# Altium footprint library LibTim_Misc.PcbLib: 21 footprints (part 2 of 2)
Each footprint in its own frame and in the unit in brackets; x right, y up, seen from the top. Pads: shape width x height; smd on the part's side, far side on the other; paste and mask are expansions set on the pad; w line width, h text height; cw(c..) or ccw(c..) is an arc to the next point about the centre after c.
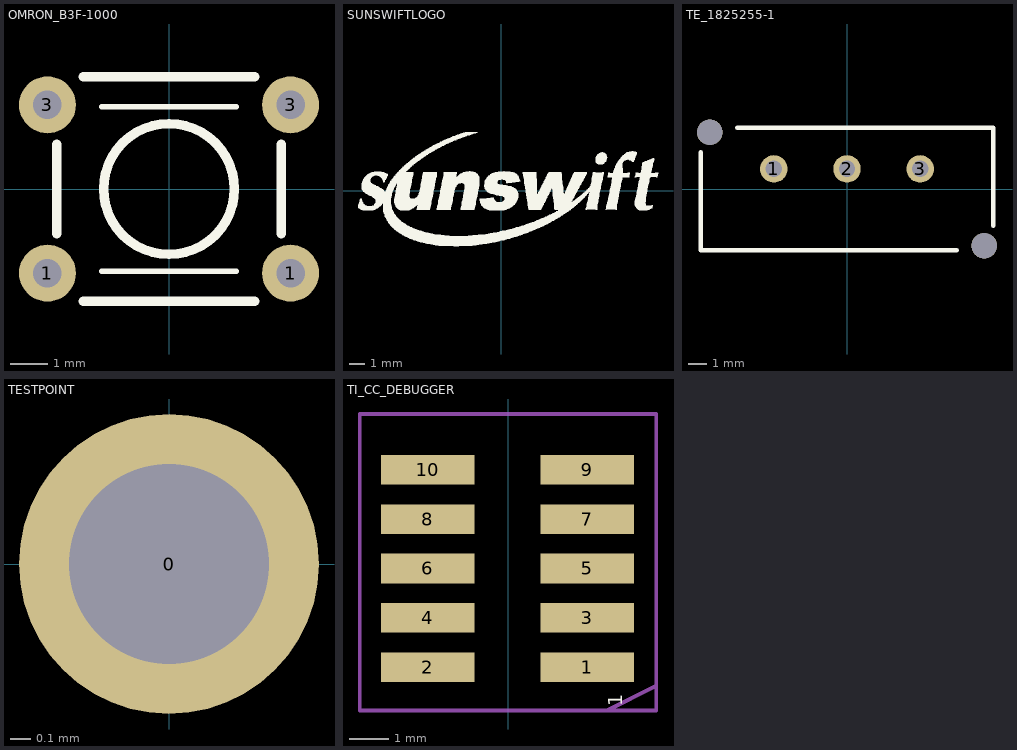
[diagram p1: the footprints below, top view; thin cyan lines are the x and y axes]

## OMRON_B3F-1000 [mil]
height 169.29
pads (4):
  round 60 hole 30: 1(-127.95,-88.58) 1(127.95,-88.58) 3(-127.95,88.58) 3(127.95,88.58)
Top Overlay:
  circle w10: c0,0 r68.9
  lines w6: -70.87,-86.61 70.87,-86.61 ; -70.87,86.61 70.87,86.61
  lines w10: -118.11,-47.24 -118.11,47.24 ; -90.55,-118.11 90.55,-118.11 ; -90.55,118.11 90.55,118.11 ; 118.11,-47.24 118.11,47.24
3D body "B3F_1000.step": height 169.29, standoff -137.8, extent -151.57,-118.1 151.58,118.12

## SUNSWIFTLOGO [mm] "Sunswift Logo"
Top Overlay:
  drawing of 1659 lines, arcs and shapes, not listed

## TE_1825255-1 [mm]
pads (5):
  round 1.5 hole 0.9: 1(-4,1.1) 2(0,1.1) 3(4,1.1)
  round 1.4 hole 1.4: ""(-7.5,3.1) ""(7.5,-3.1)
Top Overlay:
  lines w0.254: -8,2 -8,-3.35 6,-3.35 ; -6,3.35 8,3.35 8,-2
3D body "c-1825255-1-a-3d.stp": height 12, standoff -3.5, extent -8,-3.4 8,3.3

## TESTPOINT [mm]
pads (1):
  round 1.5 hole 1: 0(0,0)

## TI_CC_DEBUGGER [mm]
height 5.004
pads (10):
  rect 2.4x0.76 smd paste+0 mask+0.1: 1(2.035,-9.05) 2(-2.065,-9.05) 3(2.035,-7.78) 4(-2.065,-7.78) 5(2.035,-6.51) 6(-2.065,-6.51) 7(2.035,-5.24) 8(-2.065,-5.24) 9(2.035,-3.97) 10(-2.065,-3.97)
Top Overlay:
  text "1" at 2.935,-10.05 h0.36
Mechanical 12:
  lines w0.1: -3.81,-10.16 3.81,-10.16 3.81,-2.54 -3.81,-2.54 -3.81,-10.16
Mechanical 13:
  lines w0.1: -3.81,-10.16 -3.81,-2.54 3.81,-2.54 3.81,-9.525 2.54,-10.16 -3.81,-10.16